# Altium footprint library DIODES PTH.PcbLib: 160 footprints (part 7 of 10)
Each footprint in its own frame and in the unit in brackets; x right, y up, seen from the top. Pads: shape width x height; smd on the part's side, far side on the other; paste and mask are expansions set on the pad; w line width, h text height; cw(c..) or ccw(c..) is an arc to the next point about the centre after c.
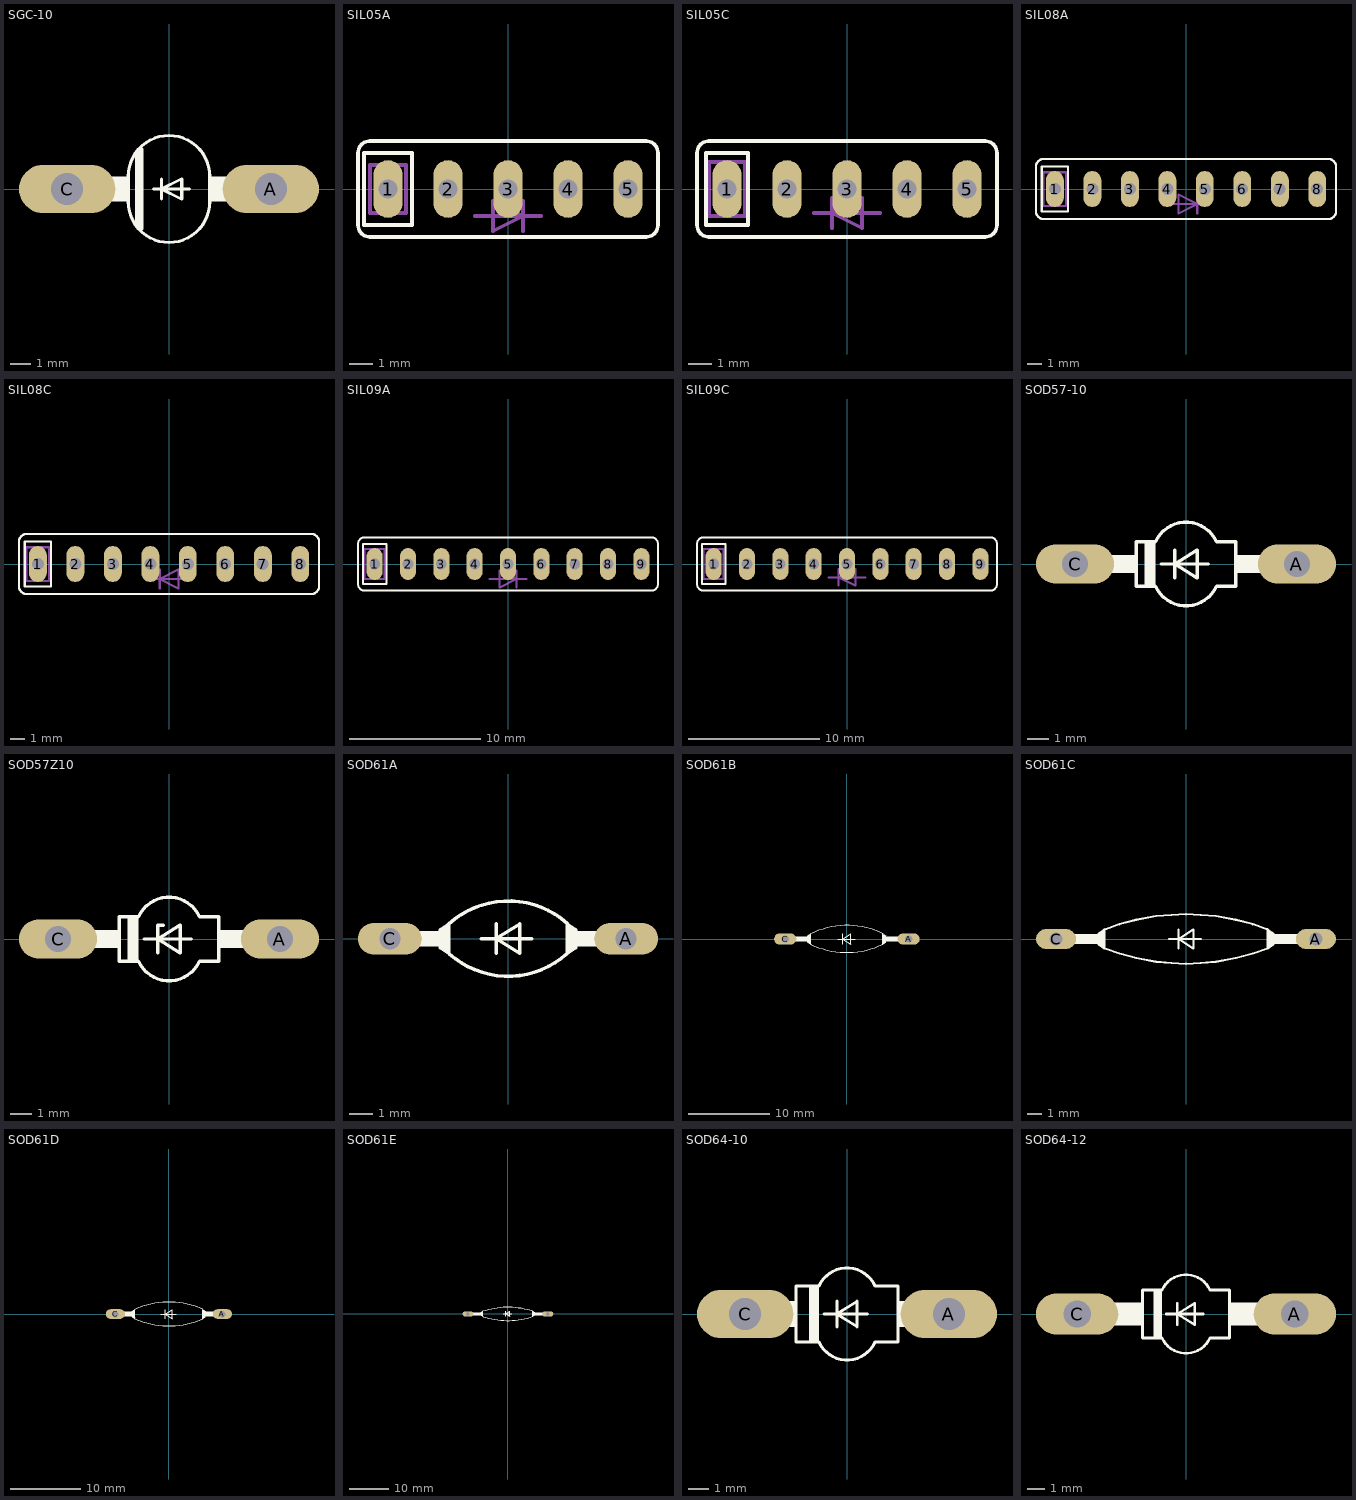
[diagram p6: the footprints below, top view; thin cyan lines are the x and y axes]

## SGC-10 [mil]
pads (2):
  oval 189x94.5 hole 63: A(200,0) C(-200,0)
Top Overlay:
  rectangle: 80,-25 130,25
  rectangle: -130,-25 -80,25
  lines w6: -30,0 -15,0 ; -15,-20 -15,0 ; -15,20 -15,0 ; 40,0 -15,0 ; -15,0 25,20 25,-20 -15,0 ; -80,-25 ccw(c0,-25) 80,-25 80,25 ccw(c0,25) -80,25 -80,-25
  lines w10: -62,-70 -62,70 ; -55,-77 -55,77
Mechanical 16:
  lines w50: -200,0 -125,0 ; 125,0 200,0

## SIL05A [mil]
pads (5):
  oval 48x96 hole 32: 1(-200,0) 2(-100,0) 3(0,0) 4(100,0) 5(200,0)
Top Overlay:
  lines w6: -250,-60 ccw(c-230,-60) -230,-80 230,-80 ccw(c230,-60) 250,-60 250,60 ccw(c230,60) 230,80 -230,80 ccw(c-230,60) -250,60 -250,-60 ; -240,-60 -240,60 -160,60 -160,-60 -240,-60
Mechanical 16:
  lines w6: -55,-45 -25,-45 ; 25,-70 25,-45 ; 25,-20 25,-45 ; 55,-45 25,-45 ; -25,-45 25,-45 ; -25,-45 -25,-20 25,-45 ; -25,-45 -25,-70 25,-45 ; -230,-40 -230,40 -170,40 -170,-40 -230,-40

## SIL05C [mil]
pads (5):
  oval 48x96 hole 32: 1(-200,0) 2(-100,0) 3(0,0) 4(100,0) 5(200,0)
Top Overlay:
  lines w6: -250,-60 ccw(c-230,-60) -230,-80 230,-80 ccw(c230,-60) 250,-60 250,60 ccw(c230,60) 230,80 -230,80 ccw(c-230,60) -250,60 -250,-60 ; -235,-60 -235,60 -165,60 -165,-60 -235,-60
Mechanical 16:
  lines w6: -55,-40 -25,-40 ; -25,-65 -25,-40 ; -25,-15 -25,-40 ; 55,-40 25,-40 ; -25,-40 25,-40 ; -25,-40 25,-65 25,-40 ; -25,-40 25,-15 25,-40 ; -230,-45 -230,45 -170,45 -170,-45 -230,-45

## SIL08A [mil]
pads (8):
  oval 48x96 hole 32: 1(-350,0) 2(-250,0) 3(-150,0) 4(-50,0) 5(50,0) 6(150,0) 7(250,0) 8(350,0)
Top Overlay:
  lines w6: -400,-60 ccw(c-380,-60) -380,-80 380,-80 ccw(c380,-60) 400,-60 400,60 ccw(c380,60) 380,80 -380,80 ccw(c-380,60) -400,60 -400,-60 ; -385,-60 -315,-60 -315,60 -385,60 -385,-60
Mechanical 16:
  lines w6: -50,-40 -20,-40 ; 30,-65 30,-40 ; 30,-15 30,-40 ; 60,-40 30,-40 ; -20,-40 -20,-65 30,-40 ; -20,-40 -20,-15 30,-40 ; -20,-40 30,-40 ; -380,-45 -320,-45 -320,45 -380,45 -380,-45

## SIL08C [mil]
pads (8):
  oval 48x96 hole 32: 1(-350,0) 2(-250,0) 3(-150,0) 4(-50,0) 5(50,0) 6(150,0) 7(250,0) 8(350,0)
Top Overlay:
  lines w6: -400,-60 ccw(c-380,-60) -380,-80 380,-80 ccw(c380,-60) 400,-60 400,60 ccw(c380,60) 380,80 -380,80 ccw(c-380,60) -400,60 -400,-60 ; -385,-60 -315,-60 -315,60 -385,60 -385,-60
Mechanical 16:
  lines w6: -55,-40 -25,-40 ; -25,-65 -25,-40 ; -25,-15 -25,-40 ; 55,-40 25,-40 ; -25,-40 25,-15 25,-40 ; -25,-40 25,-65 25,-40 ; -25,-40 25,-40 ; -380,-45 -320,-45 -320,45 -380,45 -380,-45

## SIL09A [mil]
pads (9):
  oval 48x96 hole 32: 1(-400,0) 2(-300,0) 3(-200,0) 4(-100,0) 5(0,0) 6(100,0) 7(200,0) 8(300,0) 9(400,0)
Top Overlay:
  lines w6: -450,-60 ccw(c-430,-60) -430,-80 430,-80 ccw(c430,-60) 450,-60 450,60 ccw(c430,60) 430,80 -430,80 ccw(c-430,60) -450,60 -450,-60 ; -435,-60 -365,-60 -365,60 -435,60 -435,-60
Mechanical 16:
  lines w6: -55,-45 -25,-45 ; 25,-70 25,-45 ; 25,-20 25,-45 ; 55,-45 25,-45 ; -25,-45 -25,-70 25,-45 ; -25,-45 -25,-20 25,-45 ; -25,-45 25,-45 ; -430,-45 -370,-45 -370,45 -430,45 -430,-45

## SIL09C [mil]
pads (9):
  oval 48x96 hole 32: 1(-400,0) 2(-300,0) 3(-200,0) 4(-100,0) 5(0,0) 6(100,0) 7(200,0) 8(300,0) 9(400,0)
Top Overlay:
  lines w6: -450,-60 ccw(c-430,-60) -430,-80 430,-80 ccw(c430,-60) 450,-60 450,60 ccw(c430,60) 430,80 -430,80 ccw(c-430,60) -450,60 -450,-60 ; -435,-60 -365,-60 -365,60 -435,60 -435,-60
Mechanical 16:
  lines w6: -55,-40 -25,-40 ; -25,-65 -25,-40 ; -25,-15 -25,-40 ; 55,-40 25,-40 ; -25,-40 25,-15 25,-40 ; -25,-40 25,-65 25,-40 ; -25,-40 25,-40 ; -430,-45 -370,-45 -370,45 -430,45 -430,-45

## SOD57-10 [mil]
pads (2):
  oval 141x70.5 hole 47: A(200,0) C(-200,0)
Top Overlay:
  rectangle: -75,-40 -55,40
  rectangle: -151,-16 -90,16
  rectangle: 90,-16 151,16
  lines w6: -45,0 -20,0 ; -20,-25 -20,0 ; -20,25 -20,0 ; 40,0 -20,0 ; -20,0 20,-25 20,25 -20,0 ; -90,-40 -90,40 -55,40 cw(c0,15) 55,40 90,40 90,-40 55,-40 cw(c0,-15) -55,-40 -90,-40
Mechanical 16:
  lines w32: -200,0 -150,0 ; 150,0 200,0

## SOD57Z10 [mil]
pads (2):
  oval 141x70.5 hole 47: A(200,0) C(-200,0)
Top Overlay:
  rectangle: -75,-40 -55,40
  rectangle: -151,-16 -90,16
  rectangle: 90,-16 151,16
  lines w6: -45,0 -20,0 ; -20,-25 -20,0 ; -10,25 -20,25 -20,0 ; 40,0 -20,0 ; -20,0 20,-25 20,25 -20,0 ; -90,-40 -90,40 -55,40 cw(c0,15) 55,40 90,40 90,-40 55,-40 cw(c0,-15) -55,-40 -90,-40
Mechanical 16:
  lines w32: -200,0 -150,0 ; 150,0 200,0

## SOD61A [mil]
pads (2):
  oval 108x54 hole 36: A(200,0) C(-200,0)
Top Overlay:
  rectangle: 115,-13 158,13
  rectangle: -158,-13 -115,13
  rectangle: 100,-15 115,15
  rectangle: -115,-15 -100,15
  lines w6: -99.13,-25.79 ccw(c0,85) 100,-25 ; -45,0 -20,0 ; -20,-25 -20,0 ; -20,25 -20,0 ; 40,0 -20,0 ; 100,26 ccw(c0.55,-85.38) -100,25 ; -115,-15 -115,15 ; -115,-15 -100,-25 -100,-20 ; -115,-15 -110,-15 ; -115,15 -100,25 ; -115,15 -110,15 ; -110,-15 -100,-20 ; -110,-15 -100,-15 ; -110,15 -100,20 ; -110,15 -100,15 ; -100,-20 -100,-15 ; -100,-15 -100,15 ; -100,15 -100,20 ; -100,20 -100,25 ; -20,0 20,-25 20,25 -20,0 ; 100,-25 115,-15 ; 100,-25 100,-20 ; 100,-20 110,-15 ; 100,-20 100,-15 ; 100,-15 110,-15 ; 100,-15 100,15 ; 100,15 110,15 ; 100,15 100,20 ; 100,20 110,15 ; 100,20 100,25 115,15 ; 110,-15 115,-15 ; 110,15 115,15 ; 115,-15 115,15
Mechanical 16:
  lines w26: -200,0 -160,0 ; 160,0 200,0

## SOD61B [mil]
pads (2):
  oval 108x54 hole 36: A(300,0) C(-300,0)
Top Overlay:
  rectangle: 175,-15 190,15
  rectangle: -190,-15 -175,15
  rectangle: 190,-13 257,13
  rectangle: -257,-13 -190,13
  lines w6: -174.92,-25.04 ccw(c0,332) 175,-25 ; -45,0 -20,0 ; -20,-25 -20,0 ; -20,25 -20,0 ; 40,0 -20,0 ; 175,26 ccw(c1.02,-331.6) -175,25 ; -190,-15 -190,15 ; -190,-15 -175,-25 -175,-20 ; -190,-15 -185,-15 ; -190,15 -175,25 ; -190,15 -185,15 ; -185,-15 -175,-20 ; -185,-15 -175,-15 ; -185,15 -175,20 ; -185,15 -175,15 ; -175,-20 -175,-15 ; -175,-15 -175,15 ; -175,15 -175,20 ; -175,20 -175,25 ; -20,0 20,-25 20,25 -20,0 ; 175,-25 190,-15 ; 175,-25 175,-20 ; 175,-20 185,-15 ; 175,-20 175,-15 ; 175,-15 185,-15 ; 175,-15 175,15 ; 175,15 185,15 ; 175,15 175,20 ; 175,20 185,15 ; 175,20 175,25 190,15 ; 185,-15 190,-15 ; 185,15 190,15 ; 190,-15 190,15
Mechanical 16:
  lines w26: -300,0 -260,0 ; 260,0 300,0

## SOD61C [mil]
pads (2):
  oval 108x54 hole 36: A(350,0) C(-350,0)
Top Overlay:
  rectangle: -308,-13 -235,13
  rectangle: 235,-13 308,13
  rectangle: -235,-15 -220,15
  rectangle: 220,-15 235,15
  lines w6: -218.5,-25.59 -179.13,-39.37 -133.86,-51.18 -80.71,-61.02 -39.37,-64.96 0,-66.93 40,-64.96 81,-61.02 134,-51.18 180,-39.37 219,-25.59 ; -218.5,26 -179.13,40 -133.86,52 -80.71,62 -39.37,65 0,67 40,65 81,62 134,52 180,40 219,26 ; -45,0 -20,0 ; -20,-25 -20,0 ; -20,25 -20,0 ; 40,0 -20,0 ; -235,-15 -230,-15 ; -235,-15 -220,-25 -220,-20 ; -235,-15 -235,15 ; -235,15 -230,15 ; -235,15 -220,25 -220,20 ; -230,-15 -220,-15 ; -230,-15 -220,-20 ; -230,15 -220,15 ; -230,15 -220,20 ; -220,-20 -220,-15 ; -220,-15 -220,15 ; -220,15 -220,20 ; -20,0 20,25 20,-25 -20,0 ; 220,-20 220,-15 ; 220,-20 230,-15 ; 220,-20 220,-25 235,-15 ; 220,-15 220,15 ; 220,-15 230,-15 ; 220,15 220,20 ; 220,15 230,15 ; 220,20 220,25 235,15 ; 220,20 230,15 ; 230,-15 235,-15 ; 230,15 235,15 ; 235,-15 235,15
Mechanical 16:
  lines w26: -350,0 -310,0 ; 310,0 350,0

## SOD61D [mil]
pads (2):
  oval 108x54 hole 36: A(300,0) C(-300,0)
Top Overlay:
  rectangle: -257,-13 -205,13
  rectangle: 205,-13 257,13
  rectangle: -205,-15 -190,15
  rectangle: 190,-15 205,15
  lines w6: -45,0 -20,0 ; -20,-25 -20,0 ; -20,25 -20,0 ; 40,0 -20,0 ; 190,26 ccw(c1.08,-386.53) -190,25 ; -205,-15 -200,-15 ; -205,-15 -190,-25 ; -205,-15 -205,15 ; -205,15 -200,15 ; -205,15 -190,25 ; -200,-15 -190,-15 ; -200,-15 -190,-20 ; -200,15 -190,15 ; -200,15 -190,20 ; -189.98,-25.01 ccw(c0,387) 190,-25 ; -190,-25 -190,-20 ; -190,-20 -190,-15 ; -190,-15 -190,15 ; -190,15 -190,20 ; -190,20 -190,25 ; -20,0 20,25 20,-25 -20,0 ; 190,-25 190,-20 ; 190,-25 205,-15 ; 190,-20 190,-15 ; 190,-20 200,-15 ; 190,-15 190,15 ; 190,-15 200,-15 ; 190,15 190,20 ; 190,15 200,15 ; 190,20 190,25 205,15 ; 190,20 200,15 ; 200,-15 205,-15 ; 200,15 205,15 ; 205,-15 205,15
Mechanical 16:
  lines w26: -300,0 -260,0 ; 260,0 300,0

## SOD61E [mil]
pads (2):
  oval 108x54 hole 36: A(400,0) C(-400,0)
Top Overlay:
  rectangle: -357,-13 -265,13
  rectangle: 265,-13 357,13
  rectangle: -265,-15 -250,15
  rectangle: 250,-15 265,15
  lines w6: -248.67,-25.45 ccw(c0,717) 250,-25 ; -45,0 -20,0 ; -20,-25 -20,0 ; -20,25 -20,0 ; 40,0 -20,0 ; 249,26 ccw(c0.99,-717.22) -250,25 ; -265,-15 -260,-15 ; -265,-15 -250,-25 -250,-20 ; -265,-15 -265,15 ; -265,15 -260,15 ; -265,15 -250,25 ; -260,-15 -250,-15 ; -260,-15 -250,-20 ; -260,15 -250,15 ; -260,15 -250,20 ; -250,-20 -250,-15 ; -250,-15 -250,15 ; -250,15 -250,20 ; -250,20 -250,25 ; -20,0 20,25 20,-25 -20,0 ; 250,-25 250,-20 ; 250,-25 265,-15 ; 250,-20 250,-15 ; 250,-20 260,-15 ; 250,-15 250,15 ; 250,-15 260,-15 ; 250,15 250,20 ; 250,15 260,15 ; 250,20 250,25 265,15 ; 250,20 260,15 ; 260,-15 265,-15 ; 260,15 265,15 ; 265,-15 265,15
Mechanical 16:
  lines w26: -400,0 -360,0 ; 360,0 400,0

## SOD64-10 [mil]
pads (2):
  oval 189x94.5 hole 63: A(200,0) C(-200,0)
Top Overlay:
  rectangle: -131,-26 -100,26
  rectangle: 100,-26 131,26
  rectangle: -75,-55 -55,55
  lines w6: -45,0 -20,0 ; -20,-25 -20,0 ; -20,25 -20,0 ; 40,0 -20,0 ; -20,0 20,25 20,-25 -20,0 ; -100,-55 -55,-55 ccw(c0,-30) 55,-55 100,-55 100,55 55,55 ccw(c0,30) -55,55 -100,55 -100,-55
Mechanical 16:
  lines w54: -200,0 -140,0 ; 140,0 200,0

## SOD64-12 [mil]
pads (2):
  oval 189x94.5 hole 63: A(250,0) C(-250,0)
Top Overlay:
  rectangle: -180,-26 -100,26
  rectangle: 100,-26 180,26
  rectangle: -75,-55 -55,55
  lines w6: -45,0 -20,0 ; -20,-25 -20,0 ; -20,25 -20,0 ; 40,0 -20,0 ; -20,0 20,25 20,-25 -20,0 ; -100,-55 -55,-55 ccw(c0,-30) 55,-55 100,-55 100,55 55,55 ccw(c0,30) -55,55 -100,55 -100,-55
Mechanical 16:
  lines w54: -250,0 -190,0 ; 190,0 250,0